# EAGLE library part NOISE-V2.0 (library XM8)
Xonik triple noise
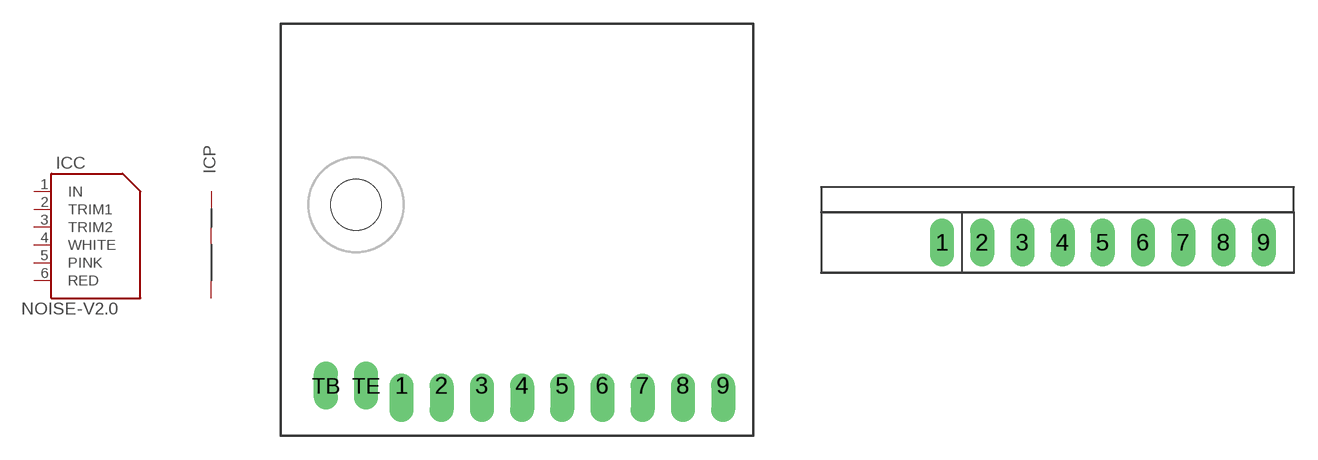
[diagram p6: symbol with the pads of XM8-NOISE-V2.0H; footprints XM8-NOISE-V2.0H, XM8-NOISE-V2.0V]

Designator prefix IC; gates C=XM8-NOISE-V2.0 P=XM8-PWR

## NOISE-V2.0H  [XM8-NOISE-V2.0H]
1  C:IN
2  C:TRIM1
3  C:TRIM2
4  C:WHITE
5  C:PINK
6  C:RED
7  P:+V  pwr
8  P:-V  pwr
9  P:AGND  pwr

## NOISE-V2.0V  [XM8-NOISE-V2.0V]
Pads as for XM8-NOISE-V2.0H

## Footprint XM8-NOISE-V2.0H (pad centres in mm)
Xonik Triple noise, horizontal mount
drill 1.016 offset: 1 -10.16,0; 2 -7.62,0; 3 -5.08,0; 4 -2.54,0; 5 0,0; 6 2.54,0; 7 5.08,0; 8 7.62,0; 9 10.16,0
drill 1.016 long: TB -14.922,0; TE -12.383,0
hole 3.2 at -13.018,11.43

## Footprint XM8-NOISE-V2.0V (pad centres in mm)
Xonik Triple noise, vertical mount
drill 1.016 long: 1 -10.16,0; 2 -7.62,0; 3 -5.08,0; 4 -2.54,0; 5 0,0; 6 2.54,0; 7 5.08,0; 8 7.62,0; 9 10.16,0